# Altium integrated library 0ZCJ0050AF2E.IntLib: 1 symbol
Pins are listed as number, name and electrical type; pins without a type are passive.

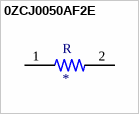
[diagram p0: symbol 0ZCJ0050AF2E]

## 0ZCJ0050AF2E
designator R
1206 SMT PPTC | 0.50 Ih | 24V; MP: 0ZCJ0050AF2E; MF: Bel Fuse; Availability: Unavailable; Price: None; Package: 1206 Bel Fuse; Value: *; SnapEDA_Link: https://www.snapeda.com/parts/0ZCJ0050AF2E/Bel%20Fuse%20Inc./view-part/1301170/?ref=snap
footprint RESC3216X125N
pins: 1, 2